# EAGLE library part BCM847DS (library patrick_custom)
NPN/NPN matched double transistors
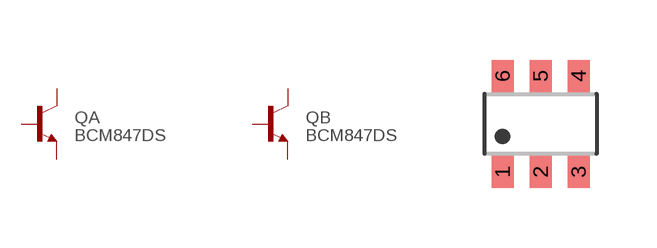
[diagram p1: symbol with the pads of SOT-457; footprint SOT-457]

Designator prefix Q; gates A=NPN B=NPN

## BCM847DS  [SOT-457]
1  A:E  pas
2  A:B  pas
3  B:C  pas
4  B:E  pas
5  B:B  pas
6  A:C  pas

## Footprint SOT-457 (pad centres in mm)
smd 0.55 x 0.8: 1 -0.95,-1.2; 2 0,-1.2; 3 0.95,-1.2; 4 0.95,1.2; 5 0,1.2; 6 -0.95,1.2